# EAGLE library part L9110 (library kxnStandard_IC_Function)
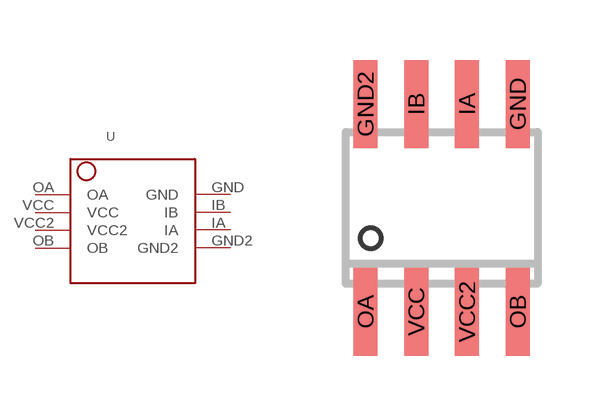
[diagram p5: symbol with the pads of L9110; footprint L9110]

Designator prefix -

## L9110 (CC_SHOP: CongCo)  [L9110]
GND  GND
GND2  GND2
IA  IA
IB  IB
OA  OA
OB  OB
VCC  VCC
VCC2  VCC2

## Footprint L9110 (pad centres in mm)
smd 0.6 x 2.2: GND 1.905,2.6; GND2 -1.905,2.6; IA 0.635,2.6; IB -0.635,2.6; OA -1.905,-2.6; OB 1.905,-2.6; VCC -0.635,-2.6; VCC2 0.635,-2.6